# Altium footprint library HyTechDevices.PCBLIB: 298 footprints (part 10 of 19)
Each footprint in its own frame and in the unit in brackets; x right, y up, seen from the top. Pads: shape width x height; smd on the part's side, far side on the other; paste and mask are expansions set on the pad; w line width, h text height; cw(c..) or ccw(c..) is an arc to the next point about the centre after c.
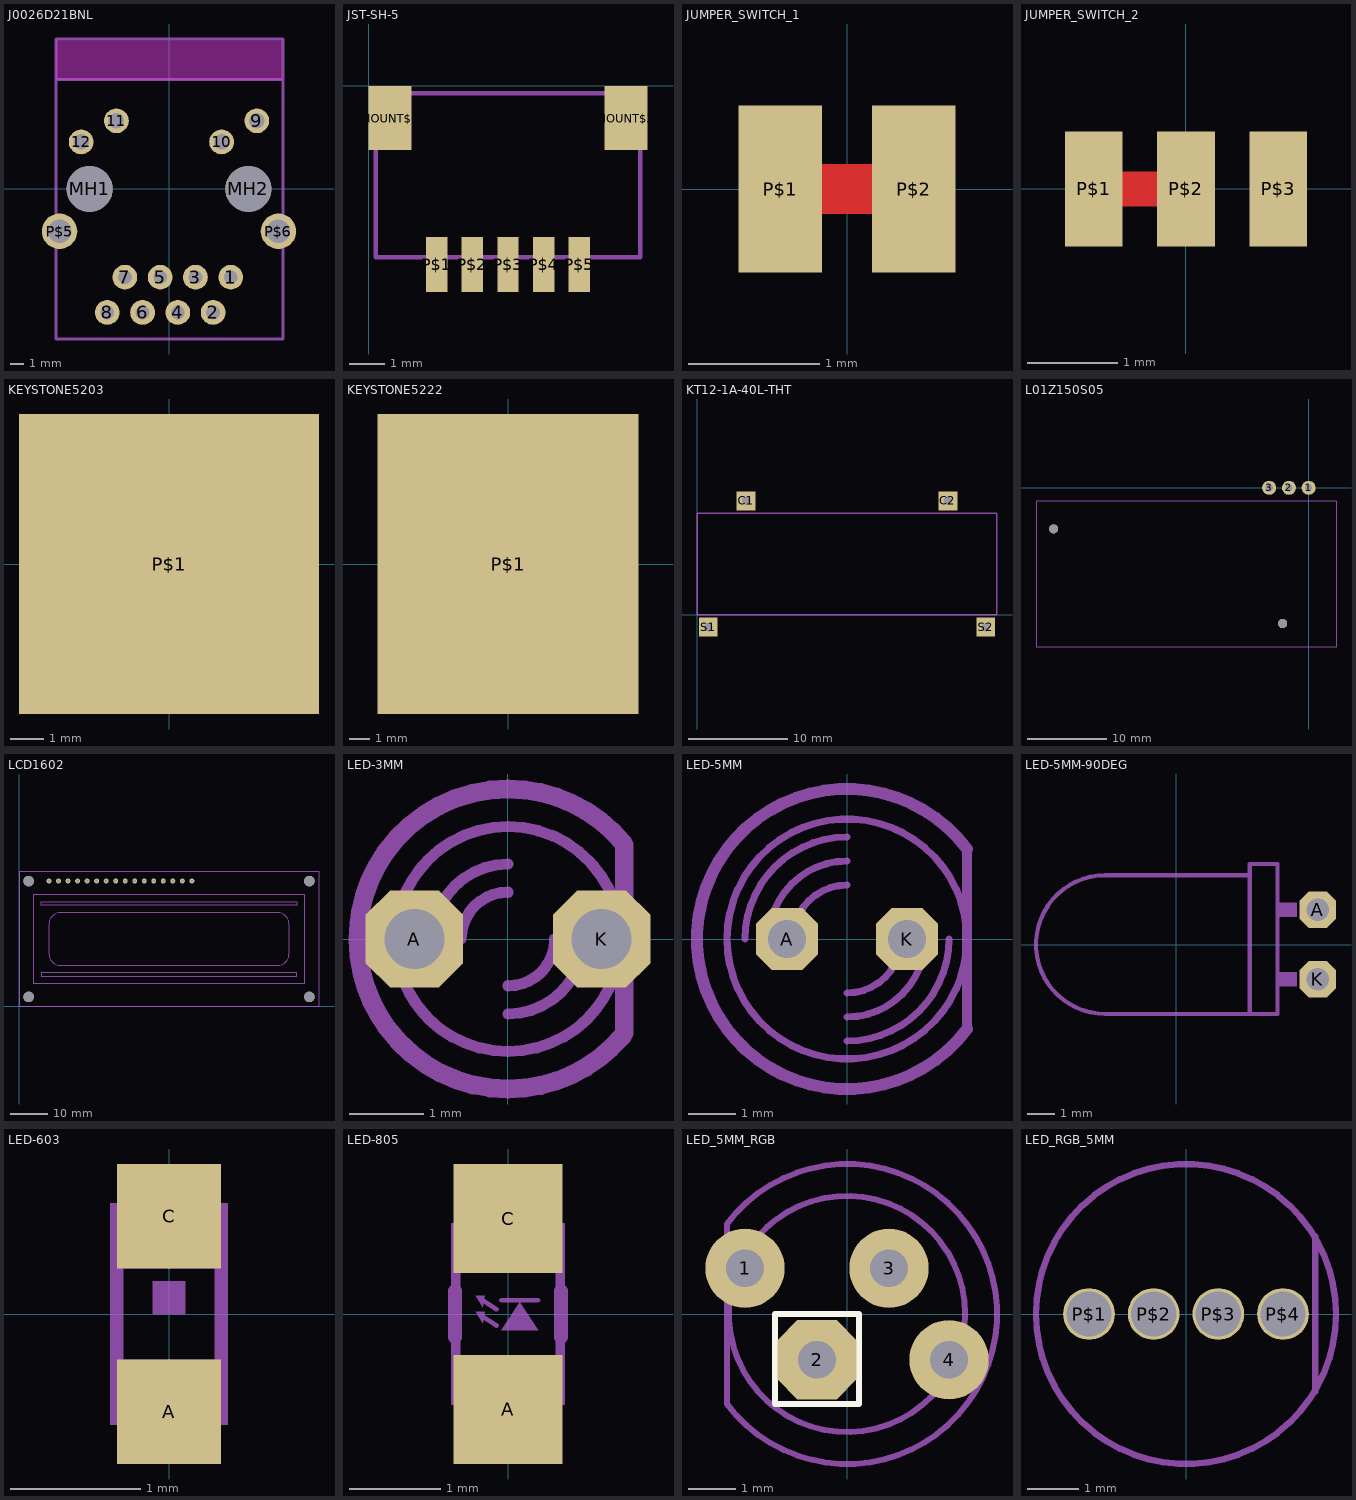
[diagram p9: the footprints below, top view; thin cyan lines are the x and y axes]

## J0026D21BNL [mil]
pads (16):
  round 70 hole 39: 1(175,-250) 2(125,-350) 3(75,-250) 4(25,-350) 5(-25,-250) 6(-75,-350) 7(-125,-250) 8(-175,-350)
  round 70 hole 44: 9(249.02,192.91) 10(149.02,133.07) 11(-149.02,192.91) 12(-249.02,133.07)
  round 130 hole 130 unplated: MH1(-225,0) MH2(225,0)
  round 100.5 hole 67: P$5(-310.04,-120.08) P$6(310.04,-120.08)
Top Layer keep-out:
  region: -320,310 -320,420 320,420 320,310
Mechanical 3:
  lines w5: -320.08,-425.2 322.83,-425.2 ; -320.08,309.84 -320.08,424.8 322.83,424.8 322.83,309.84
  lines w8: -320.08,-425.2 -320.08,309.84 322.83,309.84 322.83,-425.2
  text "NO TRACE ZONE" at -230,350 h62
Mechanical 7:
  lines w8: -320.08,-190.16 -320.08,-425.2 322.83,-425.2 322.83,-190.16 ; -320.08,-25.2 -320.08,424.8 322.83,424.8 322.83,-25.2

## JST-SH-5 [mm]
pads (7):
  rect 1.2x1.8 smd: MOUNT$1(0.6,-0.9) MOUNT$2(7.2,-0.9)
  rect 0.6x1.55 smd: P$1(1.9,-5) P$2(2.9,-5) P$3(3.9,-5) P$4(4.9,-5) P$5(5.9,-5)
Mechanical 7:
  lines w0.127: 0.2,-4.8 7.6,-4.8 7.6,-0.2 0.2,-0.2 0.2,-4.8

## JUMPER_SWITCH_1 [mil]
pads (2):
  rect 25x50 smd: P$1(-20,0) P$2(20,0)
Top Layer:
  lines w15: -10,0 10,0

## JUMPER_SWITCH_2 [mil]
pads (3):
  rect 25x50 smd: P$1(-40,0) P$2(0,0) P$3(40,0)
Top Layer:
  lines w15: -30,0 -10,0

## KEYSTONE5203 [mm]
pads (1):
  rect 9x9 smd: P$1(0,0)

## KEYSTONE5222 [mil]
pads (1):
  rect 504.13x579.13 smd: P$1(0,0)

## KT12-1A-40L-THT [mil]
pads (4):
  rect 74.8x74.8 / inner round 69.11 / far side rect 74.8x74.8 hole 33.46: C1(194.88,450.79) C2(994.09,450.79) S1(44.49,-49.21) S2(1144.49,-49.21)
Mechanical 7:
  lines w5: 0,0 1188.98,0 1188.98,401.57 0,401.57 0,0

## L01Z150S05 [mil]
pads (5):
  round 70 hole 35.43: 1(0,0) 2(-98.43,0) 3(-196.85,0)
  round 45.28 hole 45.28 unplated: MH1(-129.92,-677.17) MH2(-1271.65,-204.72)
Mechanical 7:
  lines w5: -1359.81,-795.28 136.25,-795.28 136.25,-66.93 -1359.81,-66.93 -1359.81,-795.28

## LCD1602 [mil]
pads (20):
  round 51.5 hole 31.5: 1(314.96,1317.32) 2(414.96,1317.32) 3(514.96,1317.32) 4(614.96,1317.32) 5(714.96,1317.32) 6(814.96,1317.32) 7(914.96,1317.32) 8(1014.96,1317.32) 9(1114.96,1317.32) 10(1214.96,1317.32) 11(1314.96,1317.32) 12(1414.96,1317.32) 13(1514.96,1317.32) 14(1614.96,1317.32) 15(1714.96,1317.32) 16(1814.96,1317.32)
  round 110.24 hole 110.24 unplated: MH1(100,100) MH2(100,1317.32) MH3(3049.61,1317.32) MH4(3049.61,100)
Mechanical 7:
  lines w5: 0,0 3149.61,0 3149.61,1417.32 0,1417.32 0,0 ; 157.48,236.22 2992.13,236.22 2992.13,1181.1 157.48,1181.1 157.48,236.22 ; 236.22,314.96 2913.39,314.96 2913.39,354.33 236.22,354.33 236.22,314.96 ; 236.22,1062.99 2913.39,1062.99 2913.39,1102.36 236.22,1102.36 236.22,1062.99 ; 314.96,551.18 314.96,866.14 cw(c433.07,866.14) 433.07,984.25 2716.54,984.25 cw(c2716.54,866.14) 2834.65,866.14 2834.65,551.18 cw(c2716.54,551.18) 2716.54,433.07 433.07,433.07 cw(c433.07,551.18) 314.96,551.18

## LED-3MM [mil]
pads (2):
  oct 52x52 / inner round 48.04 / far side oct 52x52 hole 32: A(-50,0) K(50,0)
Mechanical 3:
  lines w6: -46.09,38.41 ccw(c0,-0.01) -60,0 ccw(c0,-0.01) -44.85,-39.86 ; -40,0 cw(c0,0) 0,40 ; -25,0 cw(c0,0) 0,25 ; 0,-40 ccw(c0,0) 40,0 ; 0,-25 ccw(c0,0) 25,0 ; 45.56,39.05 cw(c0,0.01) 60,0 cw(c0,0.01) 46.09,-38.41
  lines w10: -70.44,37.93 ccw(c0,0.01) -80,0 ccw(c0,0) -68.13,-41.93 ; 62,-50 62,50
Mechanical 7:
  lines w6: -48,36 cw(c0,0) 0,60 cw(c-0.01,0) 48.82,34.87 ; -47.36,-36.83 ccw(c0.01,0) 0,-60 ccw(c-0.01,0) 47.36,-36.83
  lines w10: -70.59,37.65 cw(c0,0) 0,80 cw(c0.01,0) 61.46,51.22 ; -69.46,-39.69 ccw(c0,0) 0,-80 ccw(c0,0) 61.07,-51.68

## LED-5MM [mil]
pads (2):
  oct 52x52 / inner round 48.04 / far side oct 52x52 hole 32: A(-50,0) K(50,0)
Mechanical 3:
  lines w6: -85,0 cw(c0,0) 0,85 ; -65,0 cw(c0,0) 0,65 ; -45,0 cw(c0,0) 0,45 ; 0,-85 ccw(c0,0) 85,0 ; 0,-65 ccw(c0,0) 65,0 ; 0,-45 ccw(c0,0) 45,0
Mechanical 7:
  circle w6: c0,0 r100
  lines w8: 100,-75 100,75
  lines w10: 100,-75 cw(c0,0) 100,75

## LED-5MM-90DEG [mil]
pads (2):
  oct 52x52 / inner round 48.04 / far side oct 52x52 hole 32: A(200.79,49.21) K(200.79,-49.21)
Mechanical 7:
  region: 143.7,-59.06 143.7,-39.37 171.26,-39.37 171.26,-59.06
  region: 143.7,39.37 143.7,59.06 171.26,59.06 171.26,39.37
  lines w6: 104.33,98.43 -100.39,98.43 ccw(c-100.39,0) -100.39,-98.43 104.33,-98.43 ; 104.33,-98.43 143.7,-98.43 143.7,114.17 104.33,114.17 104.33,-98.43
  text "K" at 180,-140 h62

## LED-603 [mil]
pads (2):
  rect 31.5x31.5 smd: A(0,-29.53) C(0,29.53)
Mechanical 3:
  circle w2: c-13.78,24.61 r2.95
  region: -17.72,27.56 -17.72,33.46 -9.84,33.46 -9.84,27.56
  region: -10.83,21.65 -10.83,23.62 -8.86,23.62 -8.86,21.65
  region: -17.72,13.78 -17.72,28.54 -15.75,28.54 -15.75,13.78
  region: 9.84,21.65 9.84,33.46 17.72,33.46 17.72,21.65
  region: -17.72,13.78 -17.72,22.64 17.72,22.64 17.72,13.78
  region: -17.72,-33.46 -17.72,-13.78 -9.84,-13.78 -9.84,-33.46
  region: 9.84,-33.46 9.84,-13.78 17.72,-13.78 17.72,-33.46
  region: -10.83,-22.64 -10.83,-13.78 10.83,-13.78 10.83,-22.64
  region: -10.83,-25.59 -10.83,-21.65 -6.89,-21.65 -6.89,-25.59
  region: 6.89,-25.59 6.89,-21.65 10.83,-21.65 10.83,-25.59
  lines w2: -10.83,-32.48 cw(c0,-32.48) 10.83,-32.48
  lines w4: -15.75,-13.78 -15.75,14.76 ; -11.81,31.5 ccw(c0,32.53) 11.81,31.5 ; 15.75,-13.78 15.75,13.78
Mechanical 7:
  region: -4.92,0 -4.92,9.84 4.92,9.84 4.92,0

## LED-805 [mil]
pads (2):
  rect 47.24x47.24 smd: A(0,-41.34) C(0,41.34)
Mechanical 3:
  circle w4: c-17.72,33.46 r4.06
  region: 11.81,19.69 11.81,39.37 24.61,39.37 24.61,19.69
  region: -12.8,19.69 -12.8,29.53 -6.89,29.53 -6.89,19.69
  region: 6.89,19.69 6.89,29.53 12.8,29.53 12.8,19.69
  region: -7.87,19.69 -7.87,26.57 7.87,26.57 7.87,19.69
  region: 11.81,-39.37 11.81,-19.69 24.61,-19.69 24.61,-39.37
  region: -24.61,-39.37 -24.61,-19.69 -11.81,-19.69 -11.81,-39.37
  region: 6.89,-29.53 6.89,-19.69 12.8,-19.69 12.8,-29.53
  region: -12.8,-29.53 -12.8,-19.69 -6.89,-19.69 -6.89,-29.53
  region: -7.87,-26.57 -7.87,-19.69 7.87,-19.69 7.87,-26.57
  region: -23.62,19.69 -23.62,31.5 -11.81,31.5 -11.81,19.69
  region: -24.61,36.42 -24.61,39.37 -11.81,39.37 -11.81,36.42
  lines w4: -22.64,-19.69 -22.64,36.42 ; -13.78,-36.42 cw(c0,-38.55) 13.78,-36.42 ; -13.78,36.42 ccw(c0,38.55) 13.78,36.42 ; 22.64,-20.67 22.64,20.67
Mechanical 7:
  region: -3,-7 13,-7 5,5
  region: -11,3 -10,8 -14,8
  region: -11,-4 -10,1 -14,1
  lines w2: -11,-1 -5,-5 ; -11,6 -5,2 ; -3,6 13,6
  lines w6: -23,-10 -23,10 ; 23,-10 23,10

## LED_5MM_RGB [mil]
pads (4):
  round 66 hole 31.5: 1(-85,38.13) 3(35,38.13) 4(85,-38.13)
  oct 66x66 / inner round 60.98 / far side oct 66x66 hole 31.5: 2(-25,-38.13)
Top Overlay:
  lines w5: -60,-75 10,-75 10,0 -60,0 -60,-75
Mechanical 7:
  circle w5: c0,0 r98.43
  lines w5: -100,-75 -100,75 cw(c0,0) -100,-75

## LED_RGB_5MM [mil]
pads (4):
  round 40 hole 35: P$1(-75,0) P$2(-25,0) P$3(25,0) P$4(75,0)
Mechanical 7:
  circle w5: c0,0 r116
  lines w5: 100,-60 100,60